# EAGLE library part QFN_32 (library BHARADWAJ-AtMega8L)
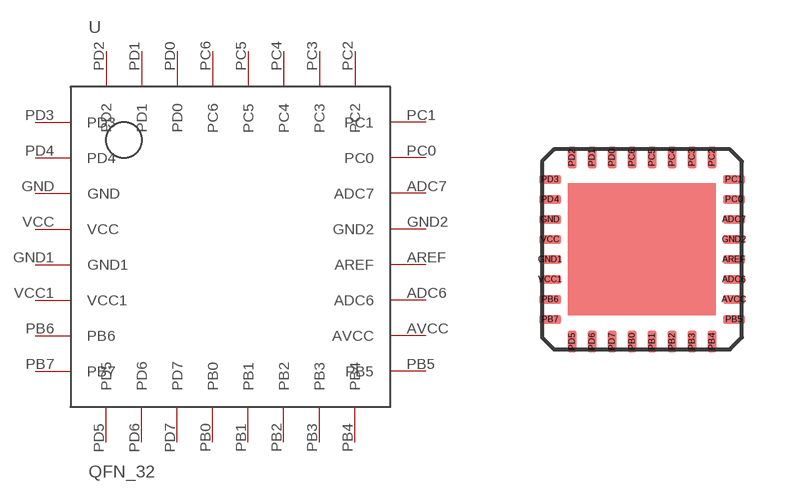
[diagram p1: symbol with the pads of QFP_32; footprint QFP_32]

Designator prefix -

## QFN_32  [QFP_32]
ADC6  ADC6
ADC7  ADC7
AREF  AREF
AVCC  AVCC
GND  GND
GND1  GND1
GND2  GND2
PB0  PB0
PB1  PB1
PB2  PB2
PB3  PB3
PB4  PB4
PB5  PB5
PB6  PB6
PB7  PB7
PC0  PC0
PC1  PC1
PC2  PC2
PC3  PC3
PC4  PC4
PC5  PC5
PC6  PC6
PD0  PD0
PD1  PD1
PD2  PD2
PD3  PD3
PD4  PD4
PD5  PD5
PD6  PD6
PD7  PD7
VCC  VCC
VCC1  VCC1

## Footprint QFP_32 (pad centres in mm)
smd 0.56 x 0.23: ADC6 4.8,1.75; ADC7 4.8,3.25; AREF 4.8,2.25; AVCC 4.8,1.25; GND 0.2,3.25; GND1 0.2,2.25; GND2 4.8,2.75; PB5 4.8,0.75; PB6 0.2,1.25; PB7 0.2,0.75; PC0 4.8,3.75; PC1 4.8,4.25; PD3 0.2,4.25; PD4 0.2,3.75; VCC 0.2,2.75; VCC1 0.2,1.75
smd 0.23 x 0.56: PB0 2.25,0.2; PB1 2.75,0.2; PB2 3.25,0.2; PB3 3.75,0.2; PB4 4.25,0.2; PC2 4.25,4.8; PC3 3.75,4.8; PC4 3.25,4.8; PC5 2.75,4.8; PC6 2.25,4.8; PD0 1.75,4.8; PD1 1.25,4.8; PD2 0.75,4.8; PD5 0.75,0.2; PD6 1.25,0.2; PD7 1.75,0.2